# EAGLE library part UBLOX-LISA-U2 (library FABO-3G)
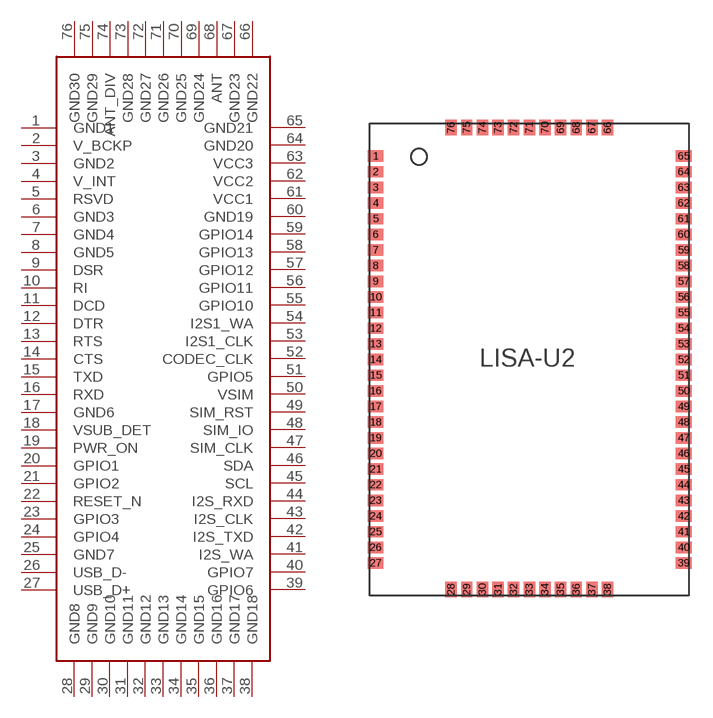
[diagram p0: symbol with the pads of UBLOX-LISA-U2; footprint UBLOX-LISA-U2]

Designator prefix -

## UBLOX-LISA-U2  [UBLOX-LISA-U2]
1  GND1
2  V_BCKP
3  GND2
4  V_INT
5  RSVD
6  GND3
7  GND4
8  GND5
9  DSR
10  RI
11  DCD
12  DTR
13  RTS
14  CTS
15  TXD
16  RXD
17  GND6
18  VSUB_DET
19  PWR_ON
20  GPIO1
21  GPIO2
22  RESET_N
23  GPIO3
24  GPIO4
25  GND7
26  USB_D-
27  USB_D+
28  GND8
29  GND9
30  GND10
31  GND11
32  GND12
33  GND13
34  GND14
35  GND15
36  GND16
37  GND17
38  GND18
39  GPIO6
40  GPIO7
41  I2S_WA
42  I2S_TXD
43  I2S_CLK
44  I2S_RXD
45  SCL
46  SDA
47  SIM_CLK
48  SIM_IO
49  SIM_RST
50  VSIM
51  GPIO5
52  CODEC_CLK
53  I2S1_CLK
54  I2S1_WA
55  GPIO10
56  GPIO11
57  GPIO12
58  GPIO13
59  GPIO14
60  GND19
61  VCC1
62  VCC2
63  VCC3
64  GND20
65  GND21
66  GND22
67  GND23
68  ANT
69  GND24
70  GND25
71  GND26
72  GND27
73  GND28
74  ANT_DIV
75  GND29
76  GND30

## Footprint UBLOX-LISA-U2 (pad centres in mm)
smd 1.1 x 0.8: 1 -10.8,14.3; 2 -10.8,13.2; 3 -10.8,12.1; 4 -10.8,11; 5 -10.8,9.9; 6 -10.8,8.8; 7 -10.8,7.7; 8 -10.8,6.6; 9 -10.8,5.5; 10 -10.8,4.4; 11 -10.8,3.3; 12 -10.8,2.2; 13 -10.8,1.1; 14 -10.8,0; 15 -10.8,-1.1; 16 -10.8,-2.2; 17 -10.8,-3.3; 18 -10.8,-4.4; 19 -10.8,-5.5; 20 -10.8,-6.6; 21 -10.8,-7.7; 22 -10.8,-8.8; 23 -10.8,-9.9; 24 -10.8,-11; 25 -10.8,-12.1; 26 -10.8,-13.2; 27 -10.8,-14.3; 39 10.85,-14.3; 40 10.85,-13.2; 41 10.85,-12.1; 42 10.85,-11; 43 10.85,-9.9; 44 10.85,-8.8; 45 10.85,-7.7; 46 10.85,-6.6; 47 10.85,-5.5; 48 10.85,-4.4; 49 10.85,-3.3; 50 10.85,-2.2; 51 10.85,-1.1; 52 10.85,0; 53 10.85,1.1; 54 10.85,2.2; 55 10.85,3.3; 56 10.85,4.4; 57 10.85,5.5; 58 10.85,6.6; 59 10.85,7.7; 60 10.85,8.8; 61 10.85,9.9; 62 10.85,11; 63 10.85,12.1; 64 10.85,13.2; 65 10.85,14.3
smd 0.8 x 1.1: 28 -5.5,-16.15; 29 -4.4,-16.15; 30 -3.3,-16.15; 31 -2.2,-16.15; 32 -1.1,-16.15; 33 0,-16.15; 34 1.1,-16.15; 35 2.2,-16.15; 36 3.3,-16.15; 37 4.4,-16.15; 38 5.5,-16.15; 66 5.5,16.3; 67 4.4,16.3; 68 3.3,16.3; 69 2.2,16.3; 70 1.1,16.3; 71 0,16.3; 72 -1.1,16.3; 73 -2.2,16.3; 74 -3.3,16.3; 75 -4.4,16.3; 76 -5.5,16.3